# Altium footprint library Fuse_Board_Footprints_V2.PcbLib: 8 footprints
Each footprint in its own frame and in the unit in brackets; x right, y up, seen from the top. Pads: shape width x height; smd on the part's side, far side on the other; paste and mask are expansions set on the pad; w line width, h text height; cw(c..) or ccw(c..) is an arc to the next point about the centre after c.
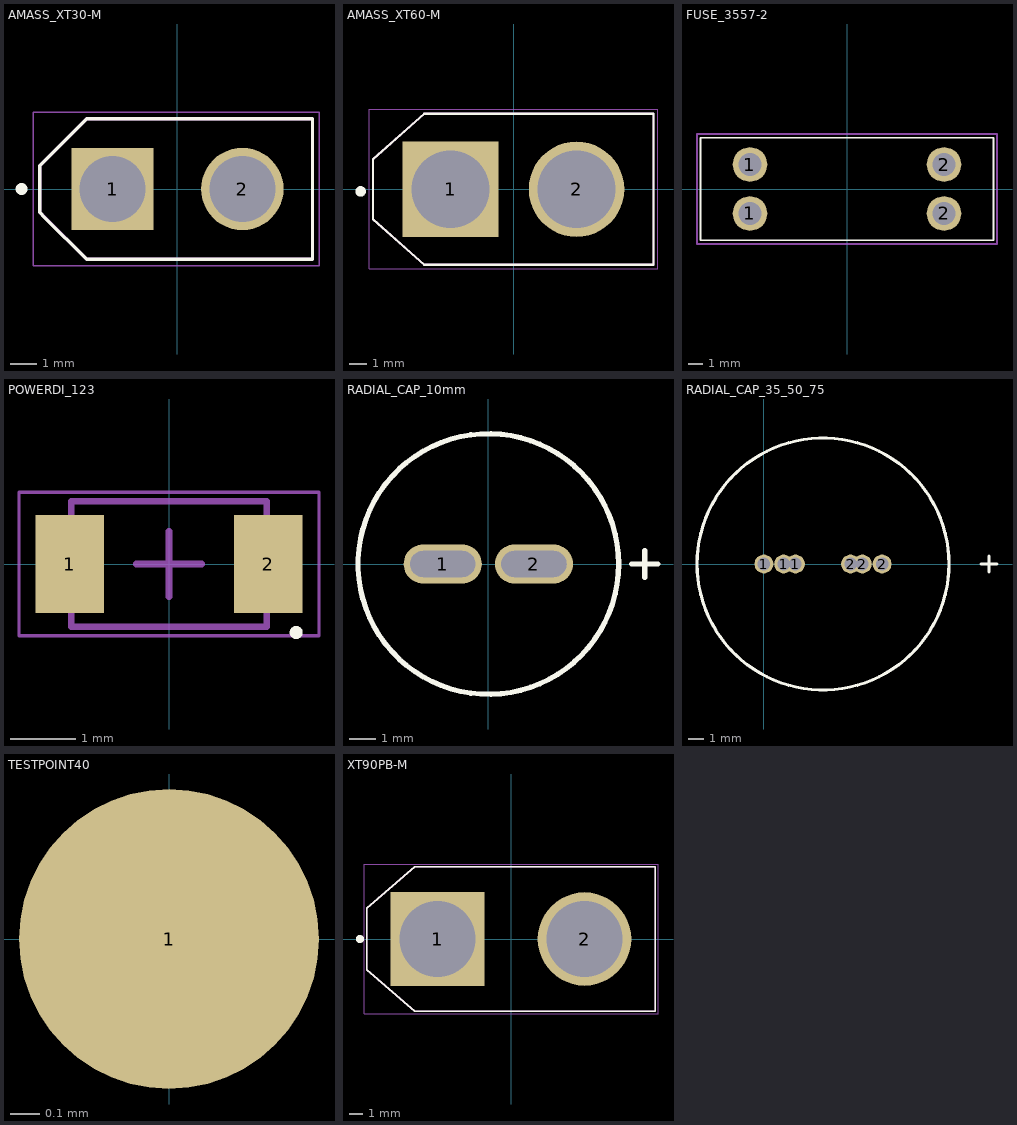
[diagram p0: the footprints below, top view; thin cyan lines are the x and y axes]

## AMASS_XT30-M [mm]
pads (2):
  rect 3.175x3.175 hole 2.54: 1(-2.5,0)
  round 3.175 hole 2.54: 2(2.5,0)
Top Overlay:
  circle w0.254: c-6,0 r0.1
  lines w0.127: -5.3,-0.9 -5.1,-1.1 -3.5,-2.7 5.2,-2.7 5.2,2.7 -3.5,2.7 -5.3,0.9 -5.3,-0.9
Mechanical 13:
  lines w0.127: -5.3,-0.9 -3.5,-2.7 5.2,-2.7 5.2,2.7 -3.5,2.7 -5.3,0.9 -5.3,-0.9
Mechanical 15:
  lines w0.05: -5.55,-2.95 5.45,-2.95 5.45,2.95 -5.55,2.95 -5.55,-2.95
3D body: height 9.4, standoff 0, extent -5.08,-2.54 5.08,2.54

## AMASS_XT60-M [mil]
pads (2):
  rect 215x215 hole 175: 1(-141.73,0)
  round 215 hole 175: 2(141.73,0)
Top Overlay:
  circle w11.81: c-344,-5 r5.91
  lines w5: -316,-68.2 -316,68.2 -200.72,170 315,170 315,-170 -200.79,-170 -316,-68.2
Mechanical 13:
  lines w5: -316,-68.2 -200.75,-170 315,-170 315,170 -200.75,170 -316,68.2 -316,-68.2
Mechanical 15:
  lines w1.97: -325,-179 325,-179 325,180 -325,180 -325,-179
3D body "XT60-M--3DModel-STEP-56544.STEP": height 629.92, standoff -177.17, extent -305.12,-159.45 305.12,159.45

## FUSE_3557-2 [mm]
pads (4):
  round 2.4 hole 1.6: 1(-6.735,-1.7) 1(-6.735,1.7) 2(6.735,-1.7) 2(6.735,1.7)
Top Overlay:
  lines w0.127: -10.16,-3.556 10.16,-3.556 10.16,3.556 -10.16,3.556 -10.16,-3.556
Mechanical 15:
  lines w0.127: -10.414,-3.81 -10.414,3.81 10.414,3.81 10.414,-3.81 -10.414,-3.81
3D body: height 7.4, standoff 0, extent -9.906,-3.378 9.906,3.378

## POWERDI_123 [mm] "POWERDI-123, 2-Leads, Body 1.78x3.70mm"
height 1
pads (2):
  rect 1.05x1.5 smd: 1(-1.525,0) 2(1.525,0)
Top Overlay:
  circle w0.1: c1.95,-1.05 r0.05
Mechanical 13:
  lines w0.1: -1.5,-0.965 -1.5,0.965 1.5,0.965 1.5,-0.965 -1.5,-0.965
Mechanical 15:
  lines w0.05: -2.3,-1.1 -2.3,1.1 2.3,1.1 2.3,-1.1 -2.3,-1.1
  lines w0.1: -0.5,0 0.5,0 ; 0,-0.5 0,0.5
3D body "POWERDI_123.step": height 1, standoff 0, extent -1.85,-0.965 1.85,0.965

## RADIAL_CAP_10mm [mm]
pads (2):
  oval 3x1.5 hole 1 slot 2.5 at 0 deg: 1(-1.75,0) 2(1.75,0)
Top Overlay:
  circle w0.2: c0,0 r5
  lines w0.2: 5.492,0 6.508,0 ; 6,-0.508 6,0.508

## RADIAL_CAP_35_50_75 [mm]
pads (6):
  round 1.2 hole 0.8: 1(0,0) 1(1.25,0) 1(2,0) 2(5.5,0) 2(6.25,0) 2(7.5,0)
Top Overlay:
  circle w0.2: c3.75,0 r8
  lines w0.2: 13.782,0 14.798,0 ; 14.29,-0.508 14.29,0.508

## TESTPOINT40 [mil]
pads (1):
  round 40 smd: 1(0,0)

## XT90PB-M [mm]
pads (2):
  rect 7x7 hole 5.7: 1(-5.5,0)
  round 7 hole 5.7: 2(5.5,0)
Top Overlay:
  circle w0.3: c-11.3,0 r0.15
  lines w0.127: -10.8,-2.3 -7.2,-5.4 10.8,-5.4 10.8,5.4 -7.2,5.4 -10.8,2.3 -10.8,-2.3
Mechanical 13:
  lines w0.127: -10.8,-2.3 -10.8,2.3 -7.2,5.4 10.8,5.4 10.8,-5.4 -7.2,-5.4 -10.8,-2.3
Mechanical 15:
  lines w0.05: -11,-5.6 11,-5.6 11,5.6 -11,5.6 -11,-5.6
3D body "XT90 Male.STEP": height 21, standoff -5, extent -10.7,-5.4 10.7,5.3